# EAGLE library part CD4053BM96 (library MRDT-2015-General)
CD4053BM96 3x1:2 Multiplexer in a SOIC-16 package http://www.ti.com/lit/ds/symlink/cd4051b.pdf
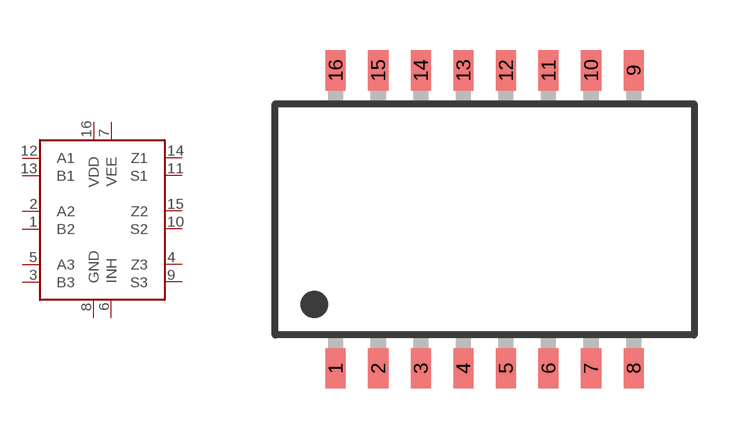
[diagram p11: symbol with the pads of SOIC-16; footprint SOIC-16]

Designator prefix -

## CD4053BM96SOIC16 (MFR: TI; MFR_PKG: SOIC16; MFR_PN: CD4053BM96)  [SOIC-16]
1  B2
2  A2
3  B3
4  Z3
5  A3
6  INH  in
7  VEE  pwr
8  GND  pwr
9  S3  in
10  S2  in
11  S1  in
12  A1
13  B1
14  Z1
15  Z2
16  VDD  pwr

## Footprint SOIC-16 (pad centres in mm)
SOIC-16 Footprint https://www.centralsemi.com/PDFs/case/SOIC-16PD.PDF
smd 0.6 x 1.2: 1 -4.445,-4.445; 2 -3.175,-4.445; 3 -1.905,-4.445; 4 -0.635,-4.445; 5 0.635,-4.445; 6 1.905,-4.445; 7 3.175,-4.445; 8 4.445,-4.445; 9 4.445,4.445; 10 3.175,4.445; 11 1.905,4.445; 12 0.635,4.445; 13 -0.635,4.445; 14 -1.905,4.445; 15 -3.175,4.445; 16 -4.445,4.445